# Altium footprint library LEDCube.PcbLib: 29 footprints (part 1 of 2)
Each footprint in its own frame and in the unit in brackets; x right, y up, seen from the top. Pads: shape width x height; smd on the part's side, far side on the other; paste and mask are expansions set on the pad; w line width, h text height; cw(c..) or ccw(c..) is an arc to the next point about the centre after c.
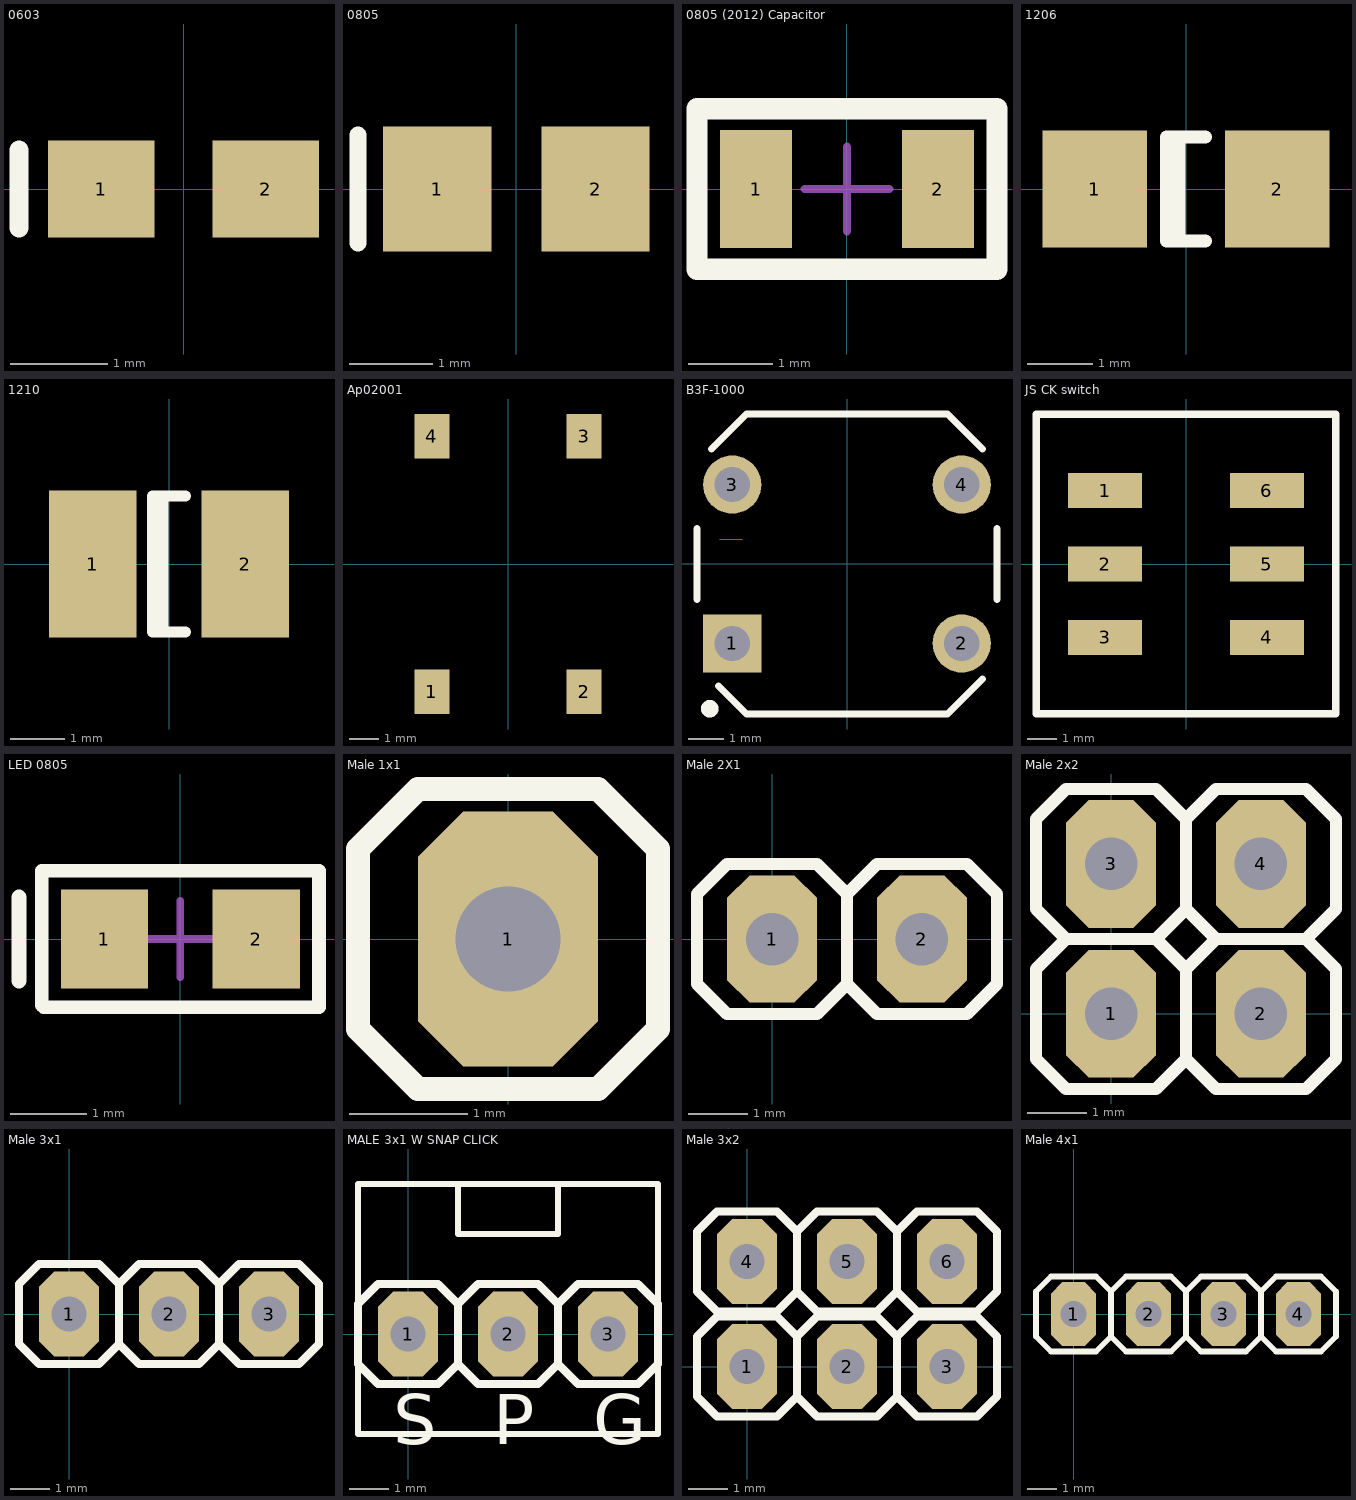
[diagram p0: the footprints below, top view; thin cyan lines are the x and y axes]

## 0603 [mm] "Chip Capacitor; Body 1.6 x 0.8 mm (LxW typ)"
height 0.87
pads (2):
  rect 1.1x1 smd: 1(-0.85,0) 2(0.85,0)
Top Overlay:
  lines w0.2: -1.7,-0.4 -1.7,0.4

## 0805 [mm] "Chip Capacitor; Body 2.0 x 1.2 mm (LxW typ)"
height 1.3
pads (2):
  rect 1.3x1.5 smd: 1(-0.95,0) 2(0.95,0)
Top Overlay:
  lines w0.2: -1.9,-0.65 -1.9,0.65

## 0805 (2012) Capacitor [mm] "0805 (2012) Capacitor"
height 0.6
pads (2):
  rect 0.85x1.4 smd: 1(-1.075,0) 2(1.075,0)
Top Overlay:
  lines w0.254: -1.775,-0.95 -1.775,0.95 1.775,0.95 1.775,-0.95 -1.775,-0.95
Mechanical 15:
  lines w0.1: -0.5,0 0.5,0 ; 0,-0.5 0,0.5 ; -1.775,-0.95 -1.775,0.95 1.775,0.95 1.775,-0.95 -1.775,-0.95
3D body: height 0.85, standoff 0, extent 0.813,-0.65 1.188,0.65
3D body: height 0.85, standoff 0, extent -1.1,-0.635 1.1,0.635
3D body: height 0.85, standoff 0, extent -1.188,-0.65 -0.813,0.65

## 1206 [mm] "Chip Capacitor; Body 3.2 x 1.6 mm (LxW typ)"
height 1.5
pads (2):
  rect 1.6x1.8 smd: 1(-1.4,0) 2(1.4,0)
Top Overlay:
  lines w0.2: -0.11,-0.8 -0.11,0.8 ; 0.3,-0.8 -0.3,-0.8 -0.3,0.8 0.3,0.8

## 1210 [mm] "Chip Capacitor; Body 3.2 x 2.5 mm (LxW typ)"
height 1.7
pads (2):
  rect 1.6x2.7 smd: 1(-1.4,0) 2(1.4,0)
Top Overlay:
  lines w0.2: -0.11,-1.25 -0.11,1.25 ; 0.3,-1.25 -0.3,-1.25 -0.3,1.25 0.3,1.25

## Ap02001 [mm]
pads (4):
  rect 1.2x1.52 smd: 1(-2.6,-4.37) 2(2.6,-4.37) 3(2.6,4.37) 4(-2.6,4.37)

## B3F-1000 [mm] "OMRON Electronics Pushbutton Tactile SPST-NO 0.05A 24V"
pads (4):
  rect 1.65x1.65 hole 1: 1(-3.25,-2.25)
  round 1.65 hole 1: 2(3.25,-2.25) 3(-3.25,2.25) 4(3.25,2.25)
Top Overlay:
  circle w0.25: c-3.891,-4.1 r0.125
  lines w0.2: -4.25,-1 -4.25,1 ; -3.837,3.263 -2.85,4.25 2.85,4.25 3.837,3.263 ; -3.638,-3.458 -2.85,-4.25 2.85,-4.25 3.837,-3.263 ; 4.25,-1 4.25,1
Mechanical 1:
  lines w0: -3.6,0.7 -2.97,0.7
3D body: height 4.3, standoff -3.5, extent -3.814,-3 3.886,3

## JS CK switch [mil]
pads (6):
  rect 98.5x47 smd: 1(-108,98) 2(-108,0) 3(-108,-98) 4(108,-98) 5(108,0) 6(108,98)
Top Overlay:
  lines w10: -200,-200 -200,200 200,200 200,-200 -200,-200

## LED 0805 [mm]
height 0.8
pads (2):
  rect 1.15x1.3 smd: 1(-1,0) 2(1,0)
Top Overlay:
  lines w0.178: -1.825,-0.875 -1.8,-0.9 1.825,-0.9 1.825,0.9 -1.825,0.9 -1.825,-0.875
  lines w0.2: -2.125,-0.55 -2.125,0.55
Mechanical 15:
  lines w0.1: -0.5,0 0.5,0 ; 0,-0.5 0,0.5 ; -1.825,-0.9 1.825,-0.9 1.825,0.9 -1.825,0.9 -1.825,-0.9
3D body: height 0.3, standoff 0, extent -1,-0.625 1,0.625
3D body: height 0.8, standoff 0, extent -0.7,-0.575 0.675,0.575

## Male 1x1 [mil]
pads (1):
  oct 60x85 hole 35: 1(0,0)
Top Overlay:
  lines w8: -30,50 30,50 ; -30,50 -50,30 -50,-30 -30,-50 30,-50 50,-30 ; -30,50 30,50 ; 30,50 50,30 ; 50,-30 50,30 ; 50,-30 50,30
3D body: height 100, standoff 0, extent -50.02,-50.02 50.02,50.02
3D body: height 460, standoff -120, extent -10,-10 10,10

## Male 2X1 [mil]
pads (2):
  oct 60x85 hole 35: 1(0,0) 2(100,0)
Top Overlay:
  lines w8: -30,50 30,50 ; -30,50 -50,30 -50,-30 -30,-50 30,-50 50,-30 ; -30,50 30,50 ; 30,50 50,30 ; 50,-30 70,-50 130,-50 150,-30 ; 50,-30 50,30 ; 50,-30 50,30 ; 50,-30 50,30 ; 50,30 70,50 ; 70,50 130,50 ; 70,50 130,50 ; 130,50 150,30 ; 150,-30 150,30 ; 150,-30 150,30
3D body: height 100, standoff 0, extent 49.98,-50.02 150.02,50.02
3D body: height 460, standoff -120, extent 90,-10 110,10
3D body: height 100, standoff 0, extent -50.02,-50.02 50.02,50.02
3D body: height 460, standoff -120, extent -10,-10 10,10

## Male 2x2 [mil]
pads (4):
  oct 60x85 hole 35: 1(0,0) 2(100,0) 3(0,100) 4(100,100)
Top Overlay:
  lines w8: -30,50 30,50 ; -30,50 -50,30 -50,-30 -30,-50 30,-50 50,-30 ; -30,50 30,50 ; -30,50 30,50 ; -30,50 -50,70 -50,130 -30,150 ; -30,150 30,150 ; -30,150 30,150 ; 30,50 50,30 ; 30,50 50,70 ; 30,150 50,130 ; 50,-30 50,30 ; 50,-30 50,30 ; 50,-30 50,30 ; 50,-30 70,-50 130,-50 150,-30 ; 50,30 70,50 ; 50,70 50,130 ; 50,70 50,130 ; 50,70 50,130 ; 50,70 70,50 ; 50,130 70,150 ; 70,50 130,50 ; 70,50 130,50 ; 70,50 130,50 ; 70,150 130,150 ; 70,150 130,150 ; 130,50 150,30 ; 130,50 150,70 ; 130,150 150,130 ; 150,-30 150,30 ; 150,-30 150,30 ; 150,70 150,130 ; 150,70 150,130
3D body: height 460, standoff -120, extent -10,-10 10,10
3D body: height 100, standoff 0, extent -50.02,-50.02 50.02,50.02
3D body: height 460, standoff -120, extent 90,-10 110,10
3D body: height 100, standoff 0, extent 49.98,-50.02 150.02,50.02
3D body: height 460, standoff -120, extent -10,90 10,110
3D body: height 100, standoff 0, extent -50.02,49.98 50.02,150.02
3D body: height 460, standoff -120, extent 90,90 110,110
3D body: height 100, standoff 0, extent 49.98,49.98 150.02,150.02

## Male 3x1 [mil]
pads (3):
  oct 60x85 hole 35: 1(0,0) 2(100,0) 3(200,0)
Top Overlay:
  lines w8: -30,50 30,50 ; -30,50 -50,30 -50,-30 -30,-50 30,-50 50,-30 ; -30,50 30,50 ; 30,50 50,30 ; 50,-30 50,30 ; 50,-30 50,30 ; 50,-30 50,30 ; 50,-30 70,-50 130,-50 150,-30 ; 50,30 70,50 ; 70,50 130,50 ; 70,50 130,50 ; 130,50 150,30 ; 150,-30 150,30 ; 150,-30 150,30 ; 150,-30 150,30 ; 150,-30 170,-50 230,-50 250,-30 ; 150,30 170,50 ; 170,50 230,50 ; 170,50 230,50 ; 230,50 250,30 ; 250,-30 250,30 ; 250,-30 250,30
3D body: height 460, standoff -120, extent -10,-10 10,10
3D body: height 100, standoff 0, extent -50.02,-50.02 50.02,50.02
3D body: height 460, standoff -120, extent 90,-10 110,10
3D body: height 100, standoff 0, extent 49.98,-50.02 150.02,50.02
3D body: height 460, standoff -120, extent 190,-10 210,10
3D body: height 100, standoff 0, extent 149.98,-50.02 250.02,50.02

## MALE 3x1 W SNAP CLICK [mil]
pads (3):
  oct 60x85 hole 35: 1(0,0) 2(100,0) 3(200,0)
Top Overlay:
  lines w6: 50,150 50,100 150,100 150,150 ; -50,-100 250,-100 250,150 -50,150 -50,-100
  lines w8: -30,50 30,50 ; -30,50 -50,30 -50,-30 -30,-50 30,-50 50,-30 ; -30,50 30,50 ; 30,50 50,30 ; 50,-30 50,30 ; 50,-30 50,30 ; 50,-30 50,30 ; 50,-30 70,-50 130,-50 150,-30 ; 50,30 70,50 ; 70,50 130,50 ; 70,50 130,50 ; 130,50 150,30 ; 150,-30 150,30 ; 150,-30 150,30 ; 150,-30 150,30 ; 150,-30 170,-50 230,-50 250,-30 ; 150,30 170,50 ; 170,50 230,50 ; 170,50 230,50 ; 230,50 250,30 ; 250,-30 250,30 ; 250,-30 250,30
  text "S" at -15,-110 h50
  text "P" at 85,-110 h50
  text "G" at 185,-110 h50
3D body: height 460, standoff -120, extent -10,-10 10,10
3D body: height 100, standoff 0, extent -50.02,-50.02 50.02,50.02
3D body: height 460, standoff -120, extent 90,-10 110,10
3D body: height 100, standoff 0, extent 49.98,-50.02 150.02,50.02
3D body: height 460, standoff -120, extent 190,-10 210,10
3D body: height 100, standoff 0, extent 149.98,-50.02 250.02,50.02

## Male 3x2 [mil]
pads (6):
  oct 60x85 hole 35: 1(0,0) 2(100,0) 3(200,0) 4(0,105) 5(100,105) 6(200,105)
Top Overlay:
  lines w8: -30,50 30,50 ; -30,50 -50,30 -50,-30 -30,-50 30,-50 50,-30 ; -30,50 30,50 ; -30,155 30,155 ; -30,155 -50,135 -50,75 -30,55 30,55 50,75 ; -30,155 30,155 ; 30,50 50,30 ; 30,155 50,135 ; 50,-30 50,30 ; 50,-30 50,30 ; 50,-30 50,30 ; 50,-30 70,-50 130,-50 150,-30 ; 50,30 70,50 ; 50,75 50,135 ; 50,75 50,135 ; 50,75 50,135 ; 50,75 70,55 130,55 150,75 ; 50,135 70,155 ; 70,50 130,50 ; 70,50 130,50 ; 70,155 130,155 ; 70,155 130,155 ; 130,50 150,30 ; 130,155 150,135 ; 150,-30 150,30 ; 150,-30 150,30 ; 150,-30 150,30 ; 150,-30 170,-50 230,-50 250,-30 ; 150,30 170,50 ; 150,75 150,135 ; 150,75 150,135 ; 150,75 150,135 ; 150,75 170,55 230,55 250,75 ; 150,135 170,155 ; 170,50 230,50 ; 170,50 230,50 ; 170,155 230,155 ; 170,155 230,155 ; 230,50 250,30 ; 230,155 250,135 ; 250,-30 250,30 ; 250,-30 250,30 ; 250,75 250,135 ; 250,75 250,135
3D body: height 460, standoff -120, extent -10,-10 10,10
3D body: height 100, standoff 0, extent -50.02,-50.02 50.02,50.02
3D body: height 460, standoff -120, extent 90,-10 110,10
3D body: height 100, standoff 0, extent 49.98,-50.02 150.02,50.02
3D body: height 460, standoff -120, extent 190,-10 210,10
3D body: height 100, standoff 0, extent 149.98,-50.02 250.02,50.02
3D body: height 460, standoff -120, extent -10,95 10,115
3D body: height 100, standoff 0, extent -50.02,54.98 50.02,155.02
3D body: height 460, standoff -120, extent 90,95 110,115
3D body: height 100, standoff 0, extent 49.98,54.98 150.02,155.02
3D body: height 460, standoff -120, extent 190,95 210,115
3D body: height 100, standoff 0, extent 149.98,54.98 250.02,155.02

## Male 4x1 [mil]
pads (4):
  oct 60x85 hole 35: 1(0,0) 2(100,0) 3(200,0) 4(300,0)
Top Overlay:
  lines w8: -30,50 30,50 ; -30,50 -50,30 -50,-30 -30,-50 30,-50 50,-30 ; -30,50 30,50 ; 30,50 50,30 ; 50,-30 50,30 ; 50,-30 50,30 ; 50,-30 50,30 ; 50,-30 70,-50 130,-50 150,-30 ; 50,30 70,50 ; 70,50 130,50 ; 70,50 130,50 ; 130,50 150,30 ; 150,-30 150,30 ; 150,-30 150,30 ; 150,-30 150,30 ; 150,-30 170,-50 230,-50 250,-30 ; 150,30 170,50 ; 170,50 230,50 ; 170,50 230,50 ; 230,50 250,30 ; 250,-30 250,30 ; 250,-30 250,30 ; 250,-30 250,30 ; 250,-30 270,-50 330,-50 350,-30 ; 250,30 270,50 ; 270,50 330,50 ; 270,50 330,50 ; 330,50 350,30 ; 350,-30 350,30 ; 350,-30 350,30
3D body: height 460, standoff -120, extent -10,-10 10,10
3D body: height 100, standoff 0, extent -50.02,-50.02 50.02,50.02
3D body: height 460, standoff -120, extent 90,-10 110,10
3D body: height 100, standoff 0, extent 49.98,-50.02 150.02,50.02
3D body: height 460, standoff -120, extent 190,-10 210,10
3D body: height 100, standoff 0, extent 149.98,-50.02 250.02,50.02
3D body: height 460, standoff -120, extent 290,-10 310,10
3D body: height 100, standoff 0, extent 249.98,-50.02 350.02,50.02